# Altium footprint library PcbLib.PcbLib: 2 footprints
Each footprint in its own frame and in the unit in brackets; x right, y up, seen from the top. Pads: shape width x height; smd on the part's side, far side on the other; paste and mask are expansions set on the pad; w line width, h text height; cw(c..) or ccw(c..) is an arc to the next point about the centre after c.
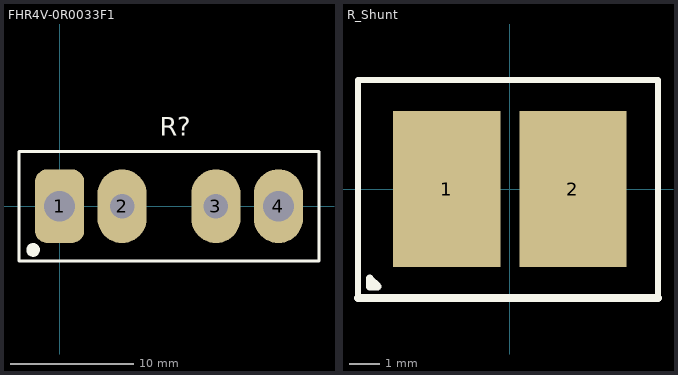
[diagram p0: the footprints below, top view; thin cyan lines are the x and y axes]

## FHR4V-0R0033F1 [mm] "3.3 mOhms ±1% 40W Through Hole Resistor 4-SIP Current Sense Metal Foil"
pads (4):
  rrect50% 4x6 hole 2.5: 1(0,0)
  oval 4x6 hole 2: 2(5.08,0) 3(12.7,0)
  oval 4x6 hole 2.5: 4(17.78,0)
Top Overlay:
  circle w0.6: c-2.159,-3.556 r0.254
  lines w0.254: -3.302,-4.445 21.082,-4.445 21.082,4.445 -3.302,4.445 -3.302,0.254 -3.302,-4.445
  text "R?" at 8.128,5.715 h1.52

## R_Shunt [mm]
pads (2):
  rect 3.5x5.1 smd: 1(-2.055,0) 2(2.055,0)
Top Overlay:
  lines w0.2: -4.953,-3.556 -4.953,3.556 4.826,3.556 4.826,-3.556
  lines w0.254: -4.953,-3.556 4.826,-3.556 ; -4.572,-3.175 -4.572,-2.921 -4.318,-3.175 -4.572,-3.175